# Altium schematic symbol library SCH - MCU - ATSAM - MICROCHIP ATSAMG54N19-AU LQFP100.SchLib: 1 symbol
Pins are listed as number, name and electrical type; pins without a type are passive.

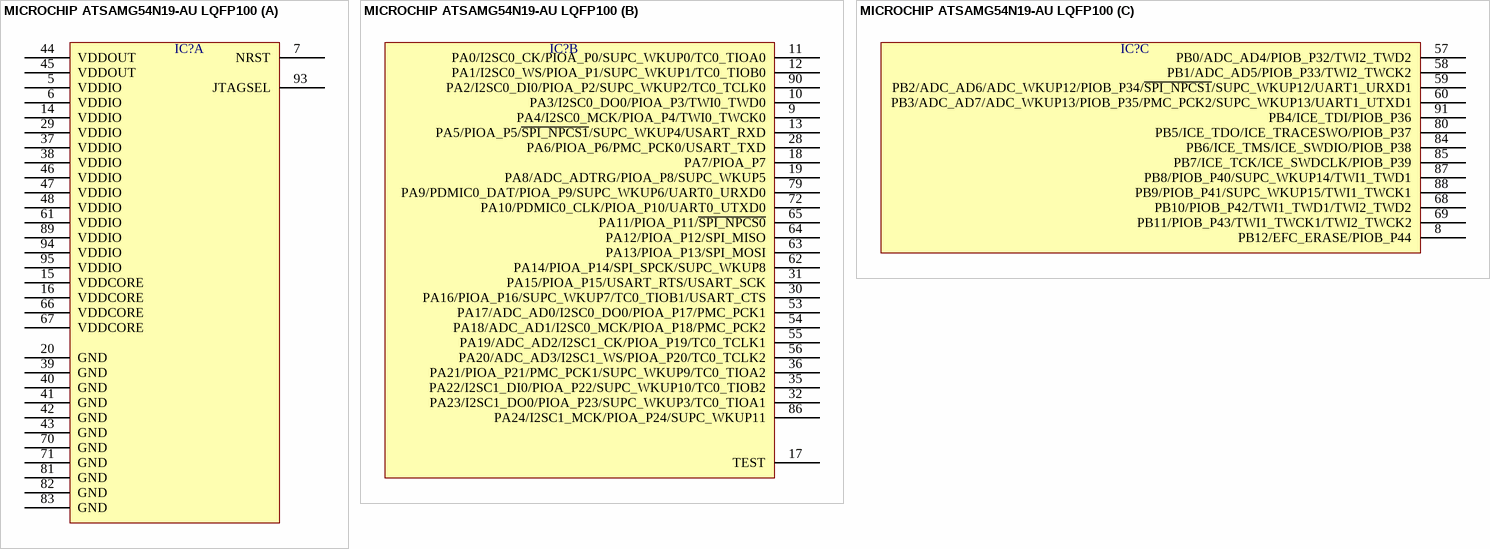
[diagram p0: symbol MICROCHIP ATSAMG54N19-AU LQFP100]

## MICROCHIP ATSAMG54N19-AU LQFP100
designator IC?  (value not drawn)
part A pins: 5 VDDIO, 6 VDDIO, 7 NRST, 14 VDDIO, 15 VDDCORE, 16 VDDCORE, 20 GND, 29 VDDIO, 37 VDDIO, 38 VDDIO, 39 GND, 40 GND, 41 GND, 42 GND, 43 GND, 44 VDDOUT, 45 VDDOUT, 46 VDDIO, 47 VDDIO, 48 VDDIO, 61 VDDIO, 66 VDDCORE, 67 VDDCORE, 70 GND, 71 GND, 81 GND, 82 GND, 83 GND, 89 VDDIO, 93 JTAGSEL, 94 VDDIO, 95 VDDIO
part B pins: 9 PA4/I2SC0_MCK/PIOA_P4/TWI0_TWCK0, 10 PA3/I2SC0_DO0/PIOA_P3/TWI0_TWD0, 11 PA0/I2SC0_CK/PIOA_P0/SUPC_WKUP0/TC0_TIOA0, 12 PA1/I2SC0_WS/PIOA_P1/SUPC_WKUP1/TC0_TIOB0, 13 PA5/PIOA_P5/~{SPI_NPCS1}/SUPC_WKUP4/USART_RXD, 17 TEST, 18 PA7/PIOA_P7, 19 PA8/ADC_ADTRG/PIOA_P8/SUPC_WKUP5, 28 PA6/PIOA_P6/PMC_PCK0/USART_TXD, 30 PA16/PIOA_P16/SUPC_WKUP7/TC0_TIOB1/USART_CTS, 31 PA15/PIOA_P15/USART_RTS/USART_SCK, 32 PA23/I2SC1_DO0/PIOA_P23/SUPC_WKUP3/TC0_TIOA1, 35 PA22/I2SC1_DI0/PIOA_P22/SUPC_WKUP10/TC0_TIOB2, 36 PA21/PIOA_P21/PMC_PCK1/SUPC_WKUP9/TC0_TIOA2, 53 PA17/ADC_AD0/I2SC0_DO0/PIOA_P17/PMC_PCK1, 54 PA18/ADC_AD1/I2SC0_MCK/PIOA_P18/PMC_PCK2, 55 PA19/ADC_AD2/I2SC1_CK/PIOA_P19/TC0_TCLK1, 56 PA20/ADC_AD3/I2SC1_WS/PIOA_P20/TC0_TCLK2, 62 PA14/PIOA_P14/SPI_SPCK/SUPC_WKUP8, 63 PA13/PIOA_P13/SPI_MOSI, 64 PA12/PIOA_P12/SPI_MISO, 65 PA11/PIOA_P11/~{SPI_NPCS0}, 72 PA10/PDMIC0_CLK/PIOA_P10/UART0_UTXD0, 79 PA9/PDMIC0_DAT/PIOA_P9/SUPC_WKUP6/UART0_URXD0, 86 PA24/I2SC1_MCK/PIOA_P24/SUPC_WKUP11, 90 PA2/I2SC0_DI0/PIOA_P2/SUPC_WKUP2/TC0_TCLK0
part C pins: 8 PB12/EFC_ERASE/PIOB_P44, 57 PB0/ADC_AD4/PIOB_P32/TWI2_TWD2, 58 PB1/ADC_AD5/PIOB_P33/TWI2_TWCK2, 59 PB2/ADC_AD6/ADC_WKUP12/PIOB_P34/~{SPI_NPCS1}/SUPC_WKUP12/UART1_URXD1, 60 PB3/ADC_AD7/ADC_WKUP13/PIOB_P35/PMC_PCK2/SUPC_WKUP13/UART1_UTXD1, 68 PB10/PIOB_P42/TWI1_TWD1/TWI2_TWD2, 69 PB11/PIOB_P43/TWI1_TWCK1/TWI2_TWCK2, 80 PB5/ICE_TDO/ICE_TRACESWO/PIOB_P37, 84 PB6/ICE_TMS/ICE_SWDIO/PIOB_P38, 85 PB7/ICE_TCK/ICE_SWDCLK/PIOB_P39, 87 PB8/PIOB_P40/SUPC_WKUP14/TWI1_TWD1, 88 PB9/PIOB_P41/SUPC_WKUP15/TWI1_TWCK1, 91 PB4/ICE_TDI/PIOB_P36